# Altium schematic symbol library MAX2611EUS+T.SchLib: 1 symbol
Pins are listed as number, name and electrical type; pins without a type are passive.

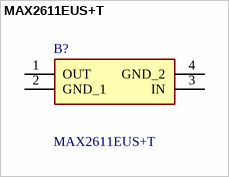
[diagram p0: symbol MAX2611EUS+T]

## MAX2611EUS+T
designator B?
RF Amplifier DC-to-Microwave, Low-Noise Amplifier; Manufacturer_Name: Analog Devices; Geometry.Height: 1.22mm; Mouser Part Number: 700-MAX2611EUS+T; Mouser Price/Stock: https://www.mouser.co.uk/ProductDetail/Maxim-Integrated/MAX2611EUS%2bT?qs=GxOUx7aO6nzhsdyrBwYTYA%3D%3D; Manufacturer_Part_Number: MAX2611EUS+T; Datasheet Link: *
footprint MAX2611EUST
pins: 1 OUT, 2 GND_1, 3 IN, 4 GND_2